# EAGLE library part PCA9635 (library ERIC)
LED Driver 16 bit open collector I2C
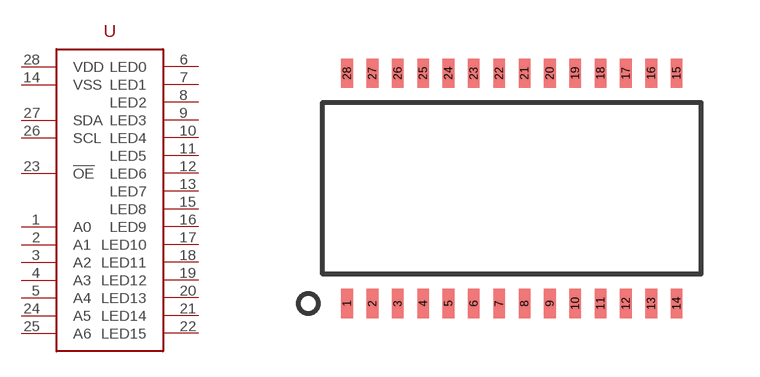
[diagram p33: symbol with the pads of TSSOP_28; footprint TSSOP_28]

Designator prefix -

## PCA9635  [TSSOP_28]
1  A0
2  A1
3  A2
4  A3
5  A4
6  LED0
7  LED1
8  LED2
9  LED3
10  LED4
11  LED5
12  LED6
13  LED7
14  VSS
15  LED8
16  LED9
17  LED10
18  LED11
19  LED12
20  LED13
21  LED14
22  LED15
23  !OE!
24  A5
25  A6
26  SCL
27  SDA
28  VDD

## Footprint TSSOP_28 (pad centres in mm)
smd 0.3 x 0.75: 1 -4.225,-2.95; 2 -3.575,-2.95; 3 -2.925,-2.95; 4 -2.275,-2.95; 5 -1.625,-2.95; 6 -0.975,-2.95; 7 -0.325,-2.95; 8 0.325,-2.95; 9 0.975,-2.95; 10 1.625,-2.95; 11 2.275,-2.95; 12 2.925,-2.95; 13 3.575,-2.95; 14 4.225,-2.95; 15 4.225,2.95; 16 3.575,2.95; 17 2.925,2.95; 18 2.275,2.95; 19 1.625,2.95; 20 0.975,2.95; 21 0.325,2.95; 22 -0.325,2.95; 23 -0.975,2.95; 24 -1.625,2.95; 25 -2.275,2.95; 26 -2.925,2.95; 27 -3.575,2.95; 28 -4.225,2.95